# Altium integrated library 1926015.IntLib: 1 symbol
Pins are listed as number, name and electrical type; pins without a type are passive.

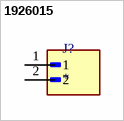
[diagram p0: symbol 1926015]

## 1926015
designator J?
MP: 1926015; Package: None; Price: None; Value: *; Availability: Unavailable
footprint PHOENIX_1926015
pins: 1, 2